# EAGLE library part FST3253 (library clock)
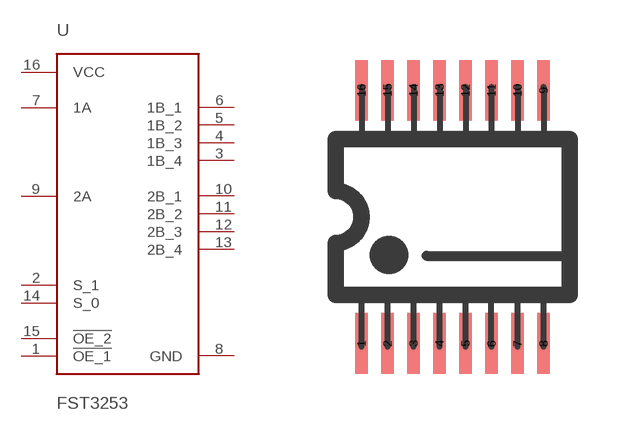
[diagram p3: symbol with the pads of TSSOP16; footprint TSSOP16]

Designator prefix -

## FST3253  [TSSOP16]
1  !OE_1
2  S_1
3  1B_4
4  1B_3
5  1B_2
6  1B_1
7  1A
8  GND
9  2A
10  2B_1
11  2B_2
12  2B_3
13  2B_4
14  S_0
15  !OE_2
16  VCC

## Footprint TSSOP16 (pad centres in mm)
TSSOP16, SMD TSSOP IC package (0.65mm pitch), 16 pins
smd 0.305 x 1.524: 1 -2.275,-3.169; 2 -1.625,-3.169; 3 -0.975,-3.169; 4 -0.325,-3.169; 5 0.325,-3.169; 6 0.975,-3.169; 7 1.625,-3.169; 8 2.275,-3.169; 9 2.275,3.169; 10 1.625,3.169; 11 0.975,3.169; 12 0.325,3.169; 13 -0.325,3.169; 14 -0.975,3.169; 15 -1.625,3.169; 16 -2.275,3.169